# EAGLE library part I__4520 (library ..SMD)
Dual binary up COUNTER
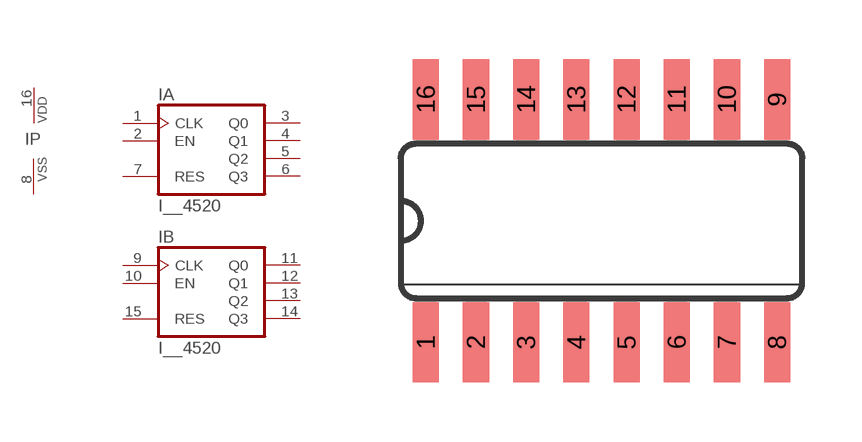
[diagram p107: symbol with the pads of SO16; footprint SO16]

Designator prefix I; gates A=4518 B=4518 P=PWRN

## I__4520D  [SO16]
1  A:CLK  in
2  A:EN  in
3  A:Q0  out
4  A:Q1  out
5  A:Q2  out
6  A:Q3  out
7  A:RES  in
8  P:VSS  pwr
9  B:CLK  in
10  B:EN  in
11  B:Q0  out
12  B:Q1  out
13  B:Q2  out
14  B:Q3  out
15  B:RES  in
16  P:VDD  pwr

## Footprint SO16 (pad centres in mm)
Small Outline Package 16
smd 0.66 x 2.032: 1 -4.445,-3.073; 2 -3.175,-3.073; 3 -1.905,-3.073; 4 -0.635,-3.073; 5 0.635,-3.073; 6 1.905,-3.073; 7 3.175,-3.073; 8 4.445,-3.073; 9 4.445,3.073; 10 3.175,3.073; 11 1.905,3.073; 12 0.635,3.073; 13 -0.635,3.073; 14 -1.905,3.073; 15 -3.175,3.073; 16 -4.445,3.073